# Altium integrated library Connectors.IntLib: 13 symbols
Pins are listed as number, name and electrical type; pins without a type are passive.

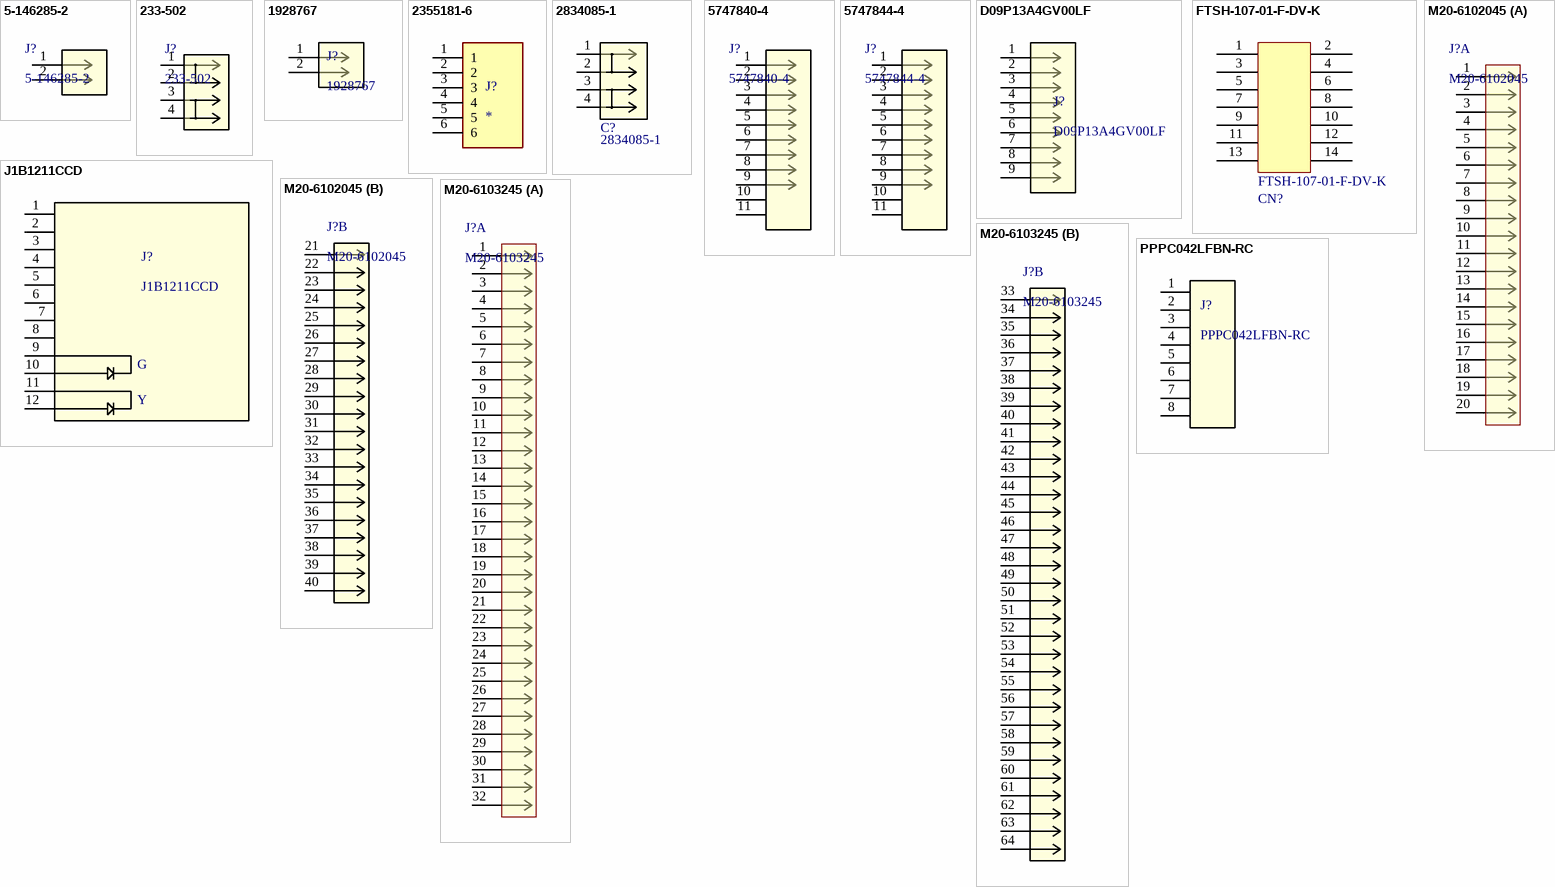
[diagram p0: symbols 5-146285-2 to PPPC042LFBN-RC]

## 5-146285-2
designator J?
Header 2 Pin 2.54; Vendor: TE Connectivity; Built_By: EMA_UL_Team; SourceLibrary: Tyco_2012-1-03; Manufacturer_Part_Number: 5-146285-2; Copyright: Copyright (C) 2016 Accelerated Designs. All rights reserved; RefDes: RefDes; Type: DEV
footprint CONN_5-146285-2_TYCO
pins: 1, 2

## 233-502
designator J?
Wago 233-502 CAGE CLAMP; Built_By: EMA_Kyle; SourceLibrary: Wago_2019-09-18; Vendor: Wago; Manufacturer_Part_Number: 233-502; Copyright: Copyright (C) 2018 Accelerated Designs. All rights reserved; RefDes: RefDes; Type: DEV
footprint CONN_233-502_WAG
pins: 1, 2, 3, 4

## 1928767
designator J?
Terminal Block 2pin; Vendor: Phoenix Contact; Built_By: EMA_Kyle; article_description: FK-MPT 0,5/ 2-3,5-H; Plug_system: Unknown; Producttyp: Printed circuit board terminal; Product_family: FK-MPT 0,5/..-H; pitch_(mm): 3.5; Number_of_position_per_row: 2; number_of_rows: 1; number_of_connection: 4; SourceLibrary: Phoenix_Contact_2020-03-19; Manufacturer_Part_Number: 1928767; Copyright: Copyright (C) 2018 Accelerated Designs. All rights reserved; contact_type: Unknown; number_of_potentials: 2; number_of_solder_pins_per_potentials: 1; solder_pin_length_(mm): 4; RefDes: RefDes; Type: DEV
footprint CONN_1928767_PXC
pins: 1, 2

## 2355181-6
designator J?
Header 6 Pin 2.54mm; MP: 2355181-6; Package: None; Price: None; Value: *; Availability: Unavailable
footprint TE_2355181-6
pins: 1, 2, 3, 4, 5, 6

## 2834085-1
designator C?
Term Block 2pos 45deg 2.54mm Te
footprint 2834085-1
pins: 1, 2, 3, 4

## 5747840-4
designator J?
DB-9 Seriale Maschio 90°; Vendor: TE Connectivity; Built_By: EMA_UL_Team; ROWS/CONFIG: 2; PITCH(MM): 0.108; POSITIONS: 9; SourceLibrary: TE_Connectivity-2018-03-16; Manufacturer_Part_Number: 5747840-4; Copyright: Copyright (C) 2016 Accelerated Designs. All rights reserved; TE_Part_Number: 5747840-4; PRODUCT: Connector; Type: DEV; RefDes: RefDes
footprint CONN9_5747840-4_TEC
pins: 1, 2, 3, 4, 5, 6, 7, 8, 9, 10, 11

## 5747844-4
designator J?
DB-9 Seriale Femmina 90°; Vendor: TE Connectivity; Built_By: EMA_UL_Team; ROWS/CONFIG: 2; PITCH(MM): 0.108; POSITIONS: 9; SourceLibrary: TE_Connectivity-2018-03-16; Manufacturer_Part_Number: 5747844-4; Copyright: Copyright (C) 2016 Accelerated Designs. All rights reserved; TE_Part_Number: 5747844-4; PRODUCT: Connector; Type: DEV; RefDes: RefDes
footprint CONN9_5747844-4_TEC
pins: 1, 2, 3, 4, 5, 6, 7, 8, 9, 10, 11

## D09P13A4GV00LF
designator J?
DB-9 Seriale 90°; Vendor: Amphenol; Built_By: EMA_Cory; SourceLibrary: Amphenol_ICC_2020-05-19; Datasheet: https://www.amphenol-icc.com/media/wysiwyg/files/drawing/c01-8646-0742.pdf; Manufacturer_Part_Number: D09P13A4GV00LF; Copyright: Copyright (C) 2018 Accelerated Designs. All rights reserved; RefDes: RefDes; Type: DEV
footprint CONN_D09P13A4GV00LF_AMP
pins: 1, 2, 3, 4, 5, 6, 7, 8, 9

## FTSH-107-01-F-DV-K
designator CN?
CONN HEADER SMD 14POS 1.27MM
footprint FTSH-107-01-F-DV-K (CONN HEADER SMD 14POS 1.27MM)
pins: 1, 2, 3, 4, 5, 6, 7, 8, 9, 10, 11, 12, 13, 14

## J1B1211CCD
designator J?
Rj45 90°with leds & magnetics; SourceLibrary: WIZnet_2020-06-05; Vendor: WIZnet; Built_By: EMA_Matt; Datasheet: http://wizwiki.net/wiki/lib/exe/fetch.php?media=products:wiz550web:wiz550webds_kr:j1b1211ccd.pdf; Manufacturer_Part_Number: J1B1211CCD; Copyright: Copyright (C) 2018 Accelerated Designs. All rights reserved; RefDes: RefDes; Type: DEV
footprint CONN12_J1B1211CCD_WIZ
pins: 1, 2, 3, 4, 5, 6, 7, 8, 9, 10, 11, 12
text: G; Y

## M20-6102045
designator J?
Header 40p 2.54 2Row Stack-Trought; Manufacturer_Part_Number: M20-6103245; Vendor: Harwin; Built_By: EMA_Cory; SourceLibrary: Harwin_2020-05-06; Datasheet: https://cdn.harwin.com/pdfs/M20-610.pdf; Copyright: Copyright (C) 2018 Accelerated Designs. All rights reserved; RefDes: RefDes; Type: DEV
footprint CONN_M20-6102045_HRW
part A pins: 1, 2, 3, 4, 5, 6, 7, 8, 9, 10, 11, 12, 13, 14, 15, 16, 17, 18, 19, 20
part B pins: 21, 22, 23, 24, 25, 26, 27, 28, 29, 30, 31, 32, 33, 34, 35, 36, 37, 38, 39, 40

## M20-6103245
designator J?
Header 64p 2.54 2Row Stack-Trought; Vendor: Harwin; Built_By: EMA_Cory; SourceLibrary: Harwin_2020-05-06; Datasheet: https://cdn.harwin.com/pdfs/M20-610.pdf; Manufacturer_Part_Number: M20-6103245; Copyright: Copyright (C) 2018 Accelerated Designs. All rights reserved; RefDes: RefDes; Type: DEV
footprint CONN_M20-6103245_HRW
part A pins: 1, 2, 3, 4, 5, 6, 7, 8, 9, 10, 11, 12, 13, 14, 15, 16, 17, 18, 19, 20, 21, 22, 23, 24, 25, 26, 27, 28, 29, 30, 31, 32
part B pins: 33, 34, 35, 36, 37, 38, 39, 40, 41, 42, 43, 44, 45, 46, 47, 48, 49, 50, 51, 52, 53, 54, 55, 56, 57, 58, 59, 60, 61, 62, 63, 64

## PPPC042LFBN-RC
designator J?
Header 8 Pin  2 Row 2.54mm; Vendor: Sullins; Built_By: EMA_Matt; SourceLibrary: Add_to_database_2021-02-08; Datasheet: https://drawings-pdf.s3.amazonaws.com/10492.pdf; Copyright: Copyright (C) 2018 Accelerated Designs. All rights reserved; Manufacturer_Part_Number: PPPC042LFBN-RC; RefDes: RefDes; Type: DEV
footprint CONN8_2LFBN-RC_SUL
pins: 1, 2, 3, 4, 5, 6, 7, 8